# Altium footprint library PcbLib1.PcbLib: 7 footprints
Each footprint in its own frame and in the unit in brackets; x right, y up, seen from the top. Pads: shape width x height; smd on the part's side, far side on the other; paste and mask are expansions set on the pad; w line width, h text height; cw(c..) or ccw(c..) is an arc to the next point about the centre after c.
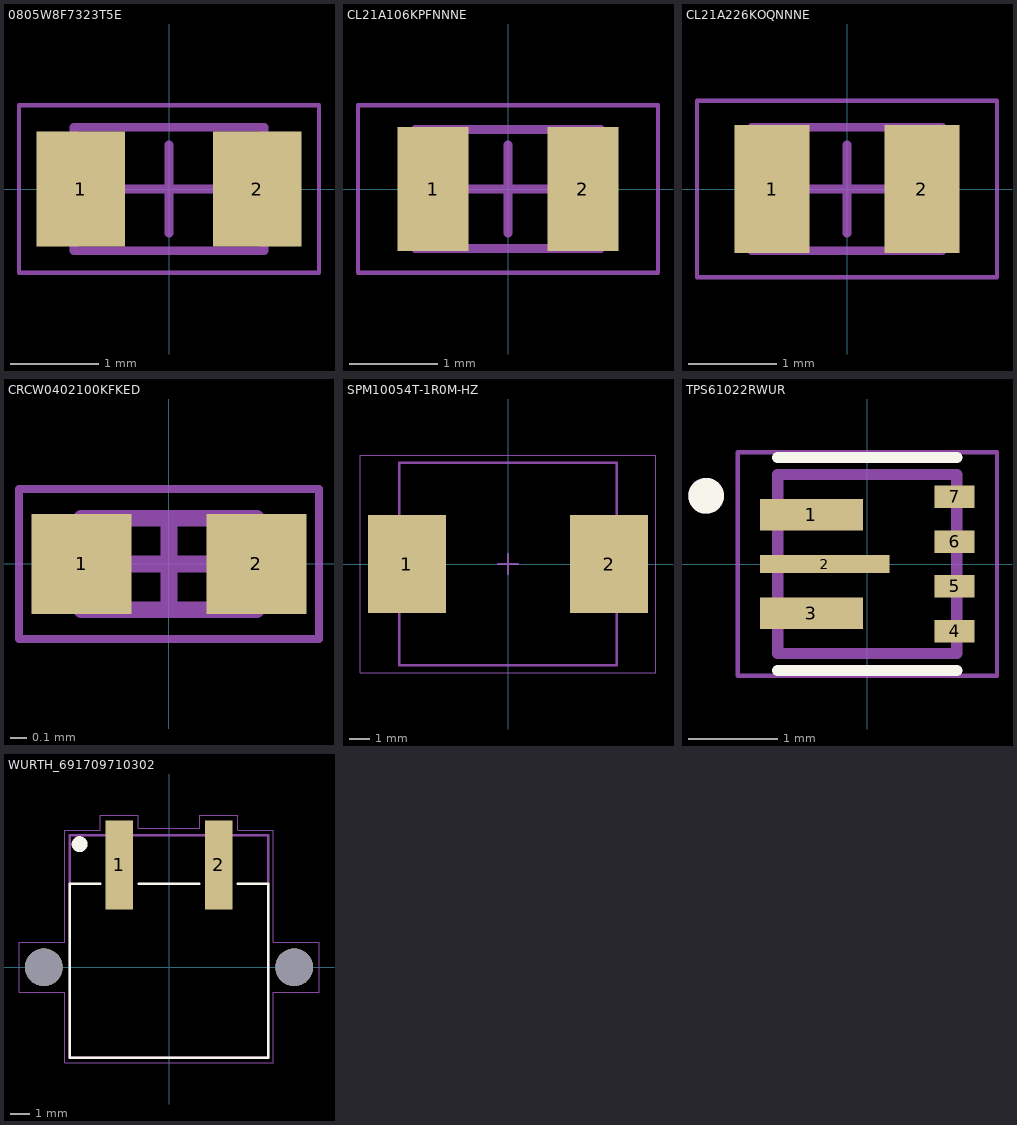
[diagram p0: the footprints below, top view; thin cyan lines are the x and y axes]

## 0805W8F7323T5E [mm] "±1% 125mW Thick Film Resistors 150V ±100ppm/? -55?~+155? 732kO 0805 Chip Resistor - Surface Mount ROHS"
height 0.65
pads (2):
  rect 1x1.3 smd: 1(-1,0) 2(1,0)
Mechanical 13:
  lines w0.1: -1.075,-0.7 1.075,-0.7 1.075,0.7 -1.075,0.7 -1.075,-0.7
Mechanical 15:
  lines w0.05: -1.7,-0.95 1.7,-0.95 1.7,0.95 -1.7,0.95 -1.7,-0.95
  lines w0.1: -0.5,0 0.5,0 ; 0,-0.5 0,0.5
3D body "0805W8F7323T5E.step": height 0.65, standoff 0, extent -1.075,-0.7 1.075,0.7

## CL21A106KPFNNNE [mm] "10V 10uF X5R ±10% 0805 Multilayer Ceramic Capacitors MLCC - SMD/SMT ROHS"
height 1.35
pads (2):
  rect 0.8x1.4 smd: 1(-0.85,0) 2(0.85,0)
Mechanical 13:
  lines w0.1: -1.05,-0.675 1.05,-0.675 1.05,0.675 -1.05,0.675 -1.05,-0.675
Mechanical 15:
  lines w0.05: -1.7,-0.95 1.7,-0.95 1.7,0.95 -1.7,0.95 -1.7,-0.95
  lines w0.1: -0.5,0 0.5,0 ; 0,-0.5 0,0.5
3D body "CL21A106KPFNNNE.step": height 1.35, standoff 0, extent -1.05,-0.675 1.05,0.675

## CL21A226KOQNNNE [mm] "16V 22uF X5R ±10% 0805 Multilayer Ceramic Capacitors MLCC - SMD/SMT ROHS"
height 1.4
pads (2):
  rect 0.85x1.45 smd: 1(-0.85,0) 2(0.85,0)
Mechanical 13:
  lines w0.1: -1.075,-0.7 1.075,-0.7 1.075,0.7 -1.075,0.7 -1.075,-0.7
Mechanical 15:
  lines w0.05: -1.7,-1 1.7,-1 1.7,1 -1.7,1 -1.7,-1
  lines w0.1: -0.5,0 0.5,0 ; 0,-0.5 0,0.5
3D body "CL21A226KOQNNNE.step": height 1.4, standoff 0, extent -1.075,-0.7 1.075,0.7

## CRCW0402100KFKED [mm] "Chip Resistor, 2-Leads, Body 1.00x0.50mm, IPC Medium Density"
height 0.4
pads (2):
  rect 0.6x0.6 smd: 1(-0.525,0) 2(0.525,0)
Mechanical 13:
  lines w0.1: -0.525,-0.275 -0.525,0.275 0.525,0.275 0.525,-0.275 -0.525,-0.275
Mechanical 15:
  lines w0.05: -0.9,-0.45 -0.9,0.45 0.9,0.45 0.9,-0.45 -0.9,-0.45
  lines w0.1: -0.275,0 0.275,0 ; 0,-0.275 0,0.275
3D body "CRCW0402100KFKED.step": height 0.4, standoff 0, extent -0.525,-0.275 0.525,0.275

## SPM10054T-1R0M-HZ [mm] "27.5A 1uH ±20% 24A 2.4mO - Inductors (SMD) ROHS"
height 1.4
pads (2):
  rect 3.8x4.8 smd: 1(-4.95,0) 2(4.95,0)
Mechanical 13:
  lines w0.127: -5.334,-4.953 -5.334,4.953 5.334,4.953 5.334,-4.953 -5.334,-4.953
Mechanical 15:
  lines w0.05: -7.239,-5.334 -7.239,5.334 7.239,5.334 7.239,-5.334 -7.239,-5.334
  lines w0.1: -0.5,0 0.5,0 ; 0,-0.5 0,0.5
3D body "SPM10054T-1R0M-HZ--3DModel-STEP-269445.STEP": height 5.26, standoff -0.14, extent -5.35,-5 5.35,5

## TPS61022RWUR [mm] "8-A boost converter with 0.5-V ultra-low input voltage 7-VQFN-HR -40 to 125"
height 35
pads (7):
  rect 1.15x0.35 smd paste-2 mask+0: 1(-0.625,0.55) 3(-0.625,-0.55)
  rect 1.45x0.2 smd paste-2 mask+0: 2(-0.475,0)
  rect 0.45x0.25 smd mask+0: 4(0.975,-0.75) 5(0.975,-0.25) 6(0.975,0.25) 7(0.975,0.75)
Top Overlay:
  circle w0.2: c-1.8,0.762 r0.1
  lines w0.127: -1,-1.19 1,-1.19 ; -1,1.19 1,1.19
Top Paste:
  region: -0.05,-0.725 -0.525,-0.725 -0.525,-0.375 -0.05,-0.375
  region: -0.725,-0.725 -1.2,-0.725 -1.2,-0.375 -0.725,-0.375
  region: 0.25,-0.1 -0.375,-0.1 -0.375,0.1 0.25,0.1
  region: -0.575,-0.1 -1.2,-0.1 -1.2,0.1 -0.575,0.1
  region: -0.05,0.375 -0.525,0.375 -0.525,0.725 -0.05,0.725
  region: -0.725,0.375 -1.2,0.375 -1.2,0.725 -0.725,0.725
Top Solder:
  region: 1.27,-0.945 0.68,-0.945 0.68,-0.555 1.27,-0.555
  region: 1.27,-0.445 0.68,-0.445 0.68,-0.055 1.27,-0.055
  region: 1.27,0.555 0.68,0.555 0.68,0.945 1.27,0.945
  region: 1.27,0.055 0.68,0.055 0.68,0.445 1.27,0.445
  region: 0.32,-0.17 -1.27,-0.17 -1.27,0.17 0.32,0.17
  region: 0.02,-0.795 -1.27,-0.795 -1.27,-0.305 0.02,-0.305
  region: 0.02,0.305 -1.27,0.305 -1.27,0.795 0.02,0.795
Mechanical 13:
  circle w0.2: c-1.803,0.763 r0.1
  lines w0.127: -1,-1 1,-1 1,1 -1,1 -1,-1
Mechanical 15:
  lines w0.05: -1.45,-1.25 1.45,-1.25 1.45,1.25 -1.45,1.25 -1.45,-1.25
3D body "TPS61022RWUR--3DModel-STEP-56544.STEP": height 0.96, standoff -0.04, extent -1,-1 1,1

## WURTH_691709710302 [mm]
pads (4):
  rect 1.4x4.5 smd: 1(-2.5,5.15) 2(2.5,5.15)
  round 1.9 hole 1.9 unplated: ""(-6.3,0) ""(6.3,0)
Top Overlay:
  circle w0.4: c-4.5,6.2 r0.2
  lines w0.127: -3.47,4.2 -5,4.2 -5,-4.55 5,-4.55 5,4.2 3.47,4.2 ; -1.51,4.2 1.51,4.2
Mechanical 13:
  lines w0.127: -5,-4.55 5,-4.55 5,6.65 -5,6.65 -5,-4.55
Mechanical 15:
  lines w0.05: -7.55,-1.25 -5.25,-1.25 -5.25,-4.8 5.25,-4.8 5.25,-1.25 7.55,-1.25 7.55,1.25 5.25,1.25 5.25,6.9 3.45,6.9 3.45,7.65 1.55,7.65 1.55,7 -1.55,7 -1.55,7.65 -3.45,7.65 -3.45,6.9 -5.25,6.9 -5.25,1.25 -7.55,1.25 -7.55,-1.25
3D body "691709710302--3DModel-STEP-56544.STEP": height 10.91, standoff -1.79, extent -7.015,-4.064 6.985,7.136